# Altium schematic symbol library SN65HVD232.SchLib: 1 symbol
Pins are listed as number, name and electrical type; pins without a type are passive.

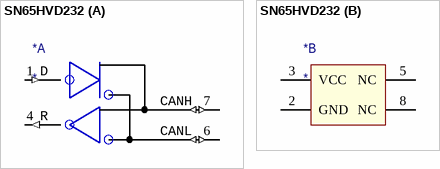
[diagram p0: symbol SN65HVD232]

## SN65HVD232
designator *
part A pins: 1 D (in), 4 R (out), 6 CANL (io), 7 CANH (io)
part B pins: 2 GND (power), 3 VCC (power), 5 NC, 8 NC